# Altium footprint library DIODE_MINIMELF(SOD80).PcbLib: 1 footprints
Each footprint in its own frame and in the unit in brackets; x right, y up, seen from the top. Pads: shape width x height; smd on the part's side, far side on the other; paste and mask are expansions set on the pad; w line width, h text height; cw(c..) or ccw(c..) is an arc to the next point about the centre after c.
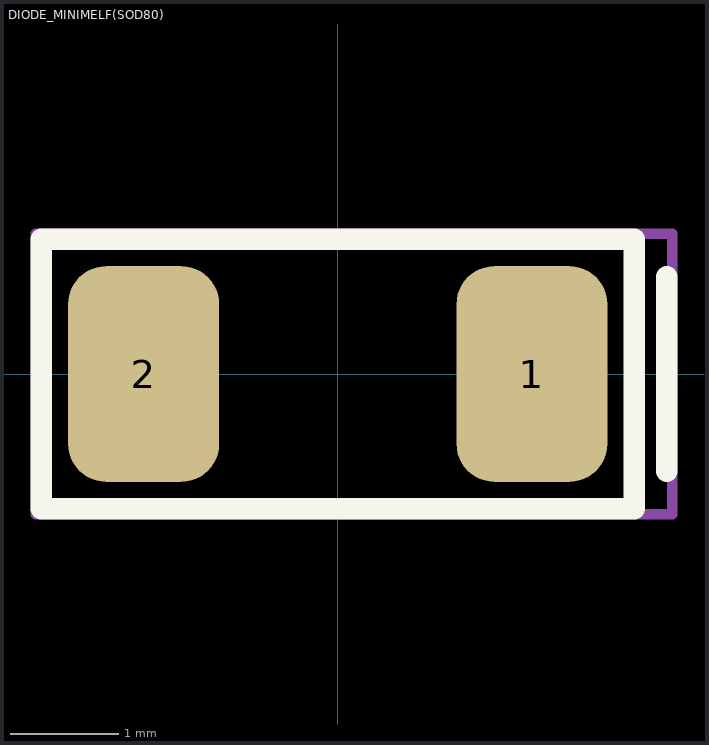
[diagram p0: the footprint, top view; thin cyan lines are the x and y axes]

## DIODE_MINIMELF(SOD80) [mm]
pads (2):
  rrect50% 1.4x2 smd: 1(1.8,0) 2(-1.8,0)
Top Overlay:
  lines w0.2: 3.05,-0.9 3.05,0.9 ; -2.75,-1.25 -2.75,1.25 2.75,1.25 2.75,-1.25 -2.75,-1.25
Top Courtyard:
  lines w0.1: -2.8,-1.3 -2.8,1.3 3.1,1.3 3.1,-1.3 -2.8,-1.3
3D body "User Library-MiniMelf-2.step": height 1.6, standoff 0, extent -1.845,-0.8 1.855,0.8